# Altium footprint library PICOROM-Flex.PcbLib: 16 footprints
Each footprint in its own frame and in the unit in brackets; x right, y up, seen from the top. Pads: shape width x height; smd on the part's side, far side on the other; paste and mask are expansions set on the pad; w line width, h text height; cw(c..) or ccw(c..) is an arc to the next point about the centre after c.
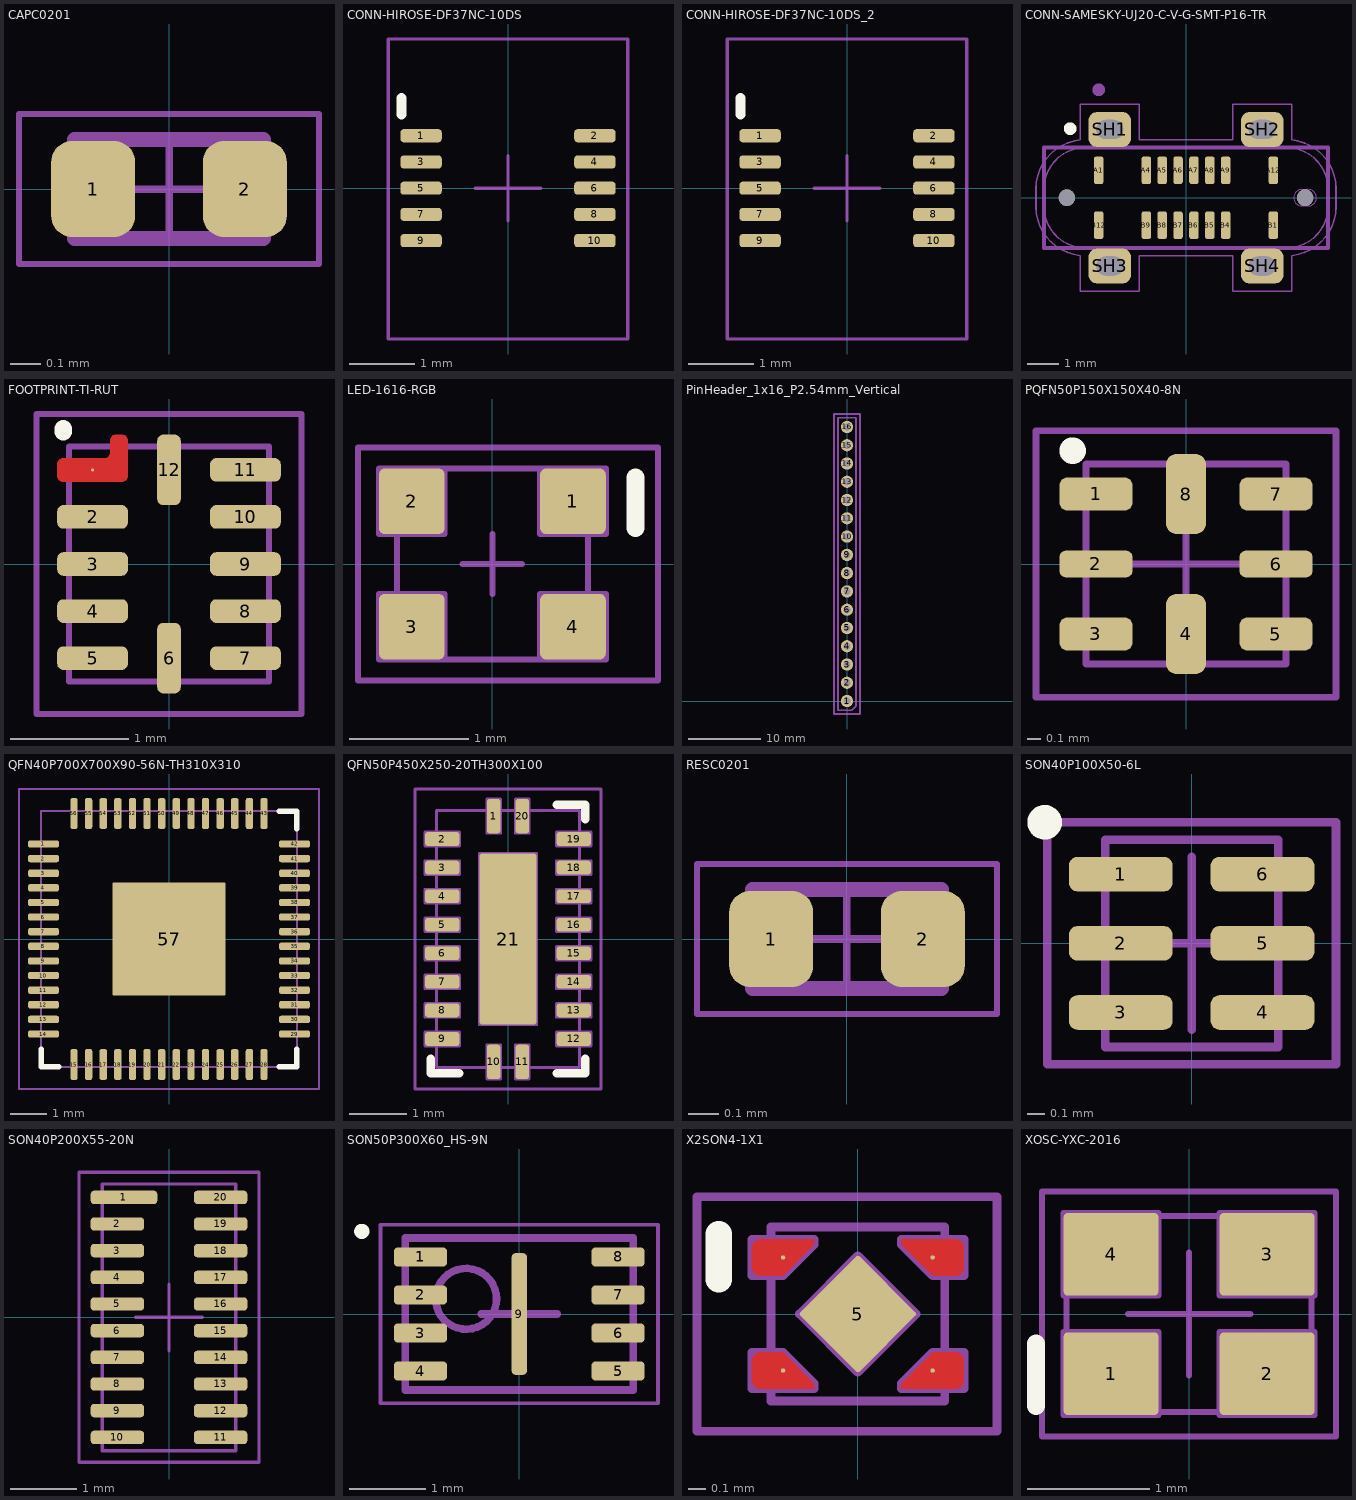
[diagram p0: the footprints below, top view; thin cyan lines are the x and y axes]

## CAPC0201 [mm]
pads (2):
  rrect50% 0.28x0.32 smd mask+0.05: 1(-0.253,0) 2(0.253,0)
Top 3D Body:
  lines w0.05: -0.315,-0.165 0.315,-0.165 0.315,0.165 -0.315,0.165 -0.315,-0.165
Bottom Coating:
  lines w0.02: -0.5,-0.25 -0.5,0.25 0.5,0.25 0.5,-0.25 -0.5,-0.25
  lines w0.025: -0.165,0 0.165,0 ; 0,-0.165 0,0.165
3D body "CAPC0603X03L.step": height 0.33, standoff 0, extent -0.315,-0.165 0.315,0.165

## CONN-HIROSE-DF37NC-10DS [mm]
height 0.4
pads (10):
  rrect50% 0.63x0.2 smd paste+0 mask+0.05: 1(-1.325,0.8) 2(1.325,0.8) 3(-1.325,0.4) 4(1.325,0.4) 5(-1.325,0) 6(1.325,0) 7(-1.325,-0.4) 8(1.325,-0.4) 9(-1.325,-0.8) 10(1.325,-0.8)
Top Overlay:
  lines w0.15: -1.625,1.125 -1.625,1.375
Bottom Coating:
  lines w0.05: -0.5,0 0,0 ; 0,-0.5 0,0 ; 0,0.5 0,0 ; 0.5,0 0,0 ; -1.825,-2.3 -1.825,-0.8 -1.825,2.275 1.825,2.275 1.825,-2.3 -1.825,-2.3
3D body "DF37NC-10DS-0.4V.stp": height 0.99, standoff 0.01, extent -1.489,-2.11 1.491,2.11

## CONN-HIROSE-DF37NC-10DS_2 [mm]
pads (10):
  rrect50% 0.63x0.2 smd paste+0 mask+0.05: 1(-1.325,0.8) 2(1.325,0.8) 3(-1.325,0.4) 4(1.325,0.4) 5(-1.325,0) 6(1.325,0) 7(-1.325,-0.4) 8(1.325,-0.4) 9(-1.325,-0.8) 10(1.325,-0.8)
Top Overlay:
  lines w0.15: -1.625,1.125 -1.625,1.375
Bottom Coating:
  lines w0.05: -0.5,0 0,0 ; 0,-0.5 0,0 ; 0,0.5 0,0 ; 0.5,0 0,0 ; -1.825,-2.3 -1.825,-0.8 -1.825,2.275 1.825,2.275 1.825,-2.3 -1.825,-2.3
3D body "DF37NC-10DS-0.4V.stp": height 0.99, standoff 0.01, extent -1.489,-2.11 1.491,2.11

## CONN-SAMESKY-UJ20-C-V-G-SMT-P16-TR [mm]
height 7.45
pads (22):
  rrect50% 0.3x0.87 smd mask+0.05: A1(-2.75,0.865) A4(-1.25,0.865) A5(-0.75,0.865) A6(-0.25,0.865) A7(0.25,0.865) A8(0.75,0.865) A9(1.25,0.865) A12(2.75,0.865) B1(2.75,-0.865) B4(1.25,-0.865) B5(0.75,-0.865) B6(0.25,-0.865) B7(-0.25,-0.865) B8(-0.75,-0.865) B9(-1.25,-0.865) B12(-2.75,-0.865)
  rrect50% 1.35x1.1 hole 0.6 slot 0.85 at 0 deg mask+0.1: SH1(-2.4,2.15) SH2(2.4,2.15) SH3(-2.4,-2.15) SH4(2.4,-2.15)
  round 0.52 hole 0.52 unplated mask+0.15: ""(-3.75,0) ""(3.75,0)
Top Overlay:
  circle w0.2: c-3.65,2.175 r0.1
Bottom Solder:
  region: 3.878,0.358 3.896,0.356 3.915,0.352 3.933,0.348 3.951,0.342 3.969,0.336 3.986,0.329 4.003,0.321 4.02,0.312 4.036,0.302 4.052,0.291 4.067,0.28 4.081,0.268 4.095,0.255 4.108,0.241 4.12,0.227 4.131,0.212 4.142,0.196 4.152,0.18 4.161,0.163 4.169,0.146 4.176,0.129 4.182,0.111 4.188,0.093 4.192,0.075 4.196,0.056 4.198,0.038 4.2,0.019 4.2,0 4.2,-0.019 4.198,-0.038 4.196,-0.056 4.192,-0.075 4.188,-0.093 4.182,-0.111 4.176,-0.129 4.169,-0.146 4.161,-0.163 4.152,-0.18 4.142,-0.196 4.131,-0.212 4.12,-0.227 4.108,-0.241 4.095,-0.255 4.081,-0.268 4.067,-0.28 4.052,-0.291 4.036,-0.302 4.02,-0.312 4.003,-0.321 3.986,-0.329 3.969,-0.336 3.951,-0.342 3.933,-0.348 3.915,-0.352 3.896,-0.356 3.878,-0.358 3.859,-0.36 3.641,-0.36 3.622,-0.358 3.604,-0.356 3.585,-0.352 3.567,-0.348 3.549,-0.342 3.531,-0.336 3.514,-0.329 3.497,-0.321 3.48,-0.312 3.464,-0.302 3.448,-0.291 3.433,-0.28 3.419,-0.268 3.405,-0.255 3.392,-0.241 3.38,-0.227 3.369,-0.212 3.358,-0.196 3.348,-0.18 3.339,-0.163 3.331,-0.146 3.324,-0.129 3.318,-0.111 3.312,-0.093 3.308,-0.075 3.304,-0.056 3.302,-0.038 3.3,-0.019 3.3,0 3.3,0.019 3.302,0.038 3.304,0.056 3.308,0.075 3.312,0.093 3.318,0.111 3.324,0.129 3.331,0.146 3.339,0.163 3.348,0.18 3.358,0.196 3.369,0.212 3.38,0.227 3.392,0.241 3.405,0.255 3.419,0.268 3.433,0.28 3.448,0.291 3.464,0.302 3.48,0.312 3.497,0.321 3.514,0.329 3.531,0.336 3.549,0.342 3.567,0.348 3.585,0.352 3.604,0.356 3.622,0.358 3.641,0.36 3.859,0.36
Mechanical 1:
  lines w0: 3.39,0 cw(c3.65,0) 3.65,0.26 3.84,0.26 cw(c3.845,-0.005) 4.11,0 cw(c3.845,0.005) 3.84,-0.26 3.66,-0.26 cw(c3.655,0.005) 3.39,0
Top 3D Body:
  lines w0.05: -4.475,-0.285 ccw(c-3.175,-0.28) -3.165,-1.58 3.165,-1.58 ccw(c3.175,-0.28) 4.475,-0.285 4.475,0.285 ccw(c3.175,0.28) 3.165,1.58 -3.165,1.58 ccw(c-3.175,0.28) -4.475,0.285 -4.475,-0.285
Bottom Coating:
  lines w0.05: -4.725,-0.286 -4.725,0.284 ; -4.725,-0.284 -4.725,0.286 ; -4.725,-0.28 ccw(c-3.175,-0.28) -3.337,-1.821 ; -4.725,0.28 cw(c-3.175,0.28) -3.337,1.821 ; -3.325,-1.821 -3.325,-2.95 -1.475,-2.95 -1.475,-1.83 1.475,-1.83 1.475,-2.95 3.325,-2.95 3.325,-1.821 ; -3.325,1.821 -3.325,2.95 -1.475,2.95 -1.475,1.83 1.475,1.83 1.475,2.95 3.325,2.95 3.325,1.821 ; 3.337,-1.821 ccw(c3.175,-0.28) 4.725,-0.28 ; 3.337,1.821 cw(c3.175,0.28) 4.725,0.28 ; 4.725,-0.286 4.725,0.284 4.725,-0.286 ; 4.725,-0.284 4.725,0.286
Mechanical 13:
  circle w0.2: c-2.75,3.4 r0.1
  lines w0.127: -4.47,-1.58 -4.47,1.58 4.47,1.58 4.47,-1.58 -4.47,-1.58
3D body "Same_Sky_UJ20-C-V-G-SMT-P16-TR.step": height 6.41, standoff -0.94, extent -4.475,-2.3 4.465,2.3

## FOOTPRINT-TI-RUT [mm] "R-PUQFN-N12, TI RUT"
height 1.1
pads (12):
  round 0.025 smd paste+0 mask+0.05: 1(-0.65,0.8)
  rrect50% 0.6x0.2 smd paste+0 mask+0.05: 2(-0.65,0.4) 3(-0.65,0) 4(-0.65,-0.4) 5(-0.65,-0.8) 7(0.65,-0.8) 8(0.65,-0.4) 9(0.65,0) 10(0.65,0.4) 11(0.65,0.8)
  rrect50% 0.2x0.6 smd paste+0 mask+0.05: 6(0,-0.8) 12(0,0.8)
Top Layer:
  region: -0.9,0.9 -0.91,0.9 -0.928,0.892 -0.942,0.878 -0.95,0.86 -0.95,0.85 -0.95,0.75 -0.95,0.74 -0.942,0.722 -0.929,0.708 -0.91,0.7 -0.9,0.7 -0.4,0.7 -0.39,0.7 -0.372,0.708 -0.358,0.722 -0.35,0.74 -0.35,0.75 -0.35,1.05 -0.35,1.06 -0.358,1.078 -0.372,1.092 -0.39,1.1 -0.4,1.1 -0.45,1.1 -0.46,1.1 -0.478,1.092 -0.492,1.078 -0.5,1.06 -0.5,1.05 -0.5,0.95 -0.501,0.94 -0.508,0.922 -0.522,0.908 -0.54,0.901 -0.55,0.9
Top Overlay:
  lines w0.15: -0.9,1.125 -0.9,1.15
Top Paste:
  region: -0.35,0.901 -0.501,0.901 -0.501,1.05 -0.35,1.05
  region: 0.1,-1.051 -0.1,-1.051 -0.1,-0.55 0.1,-0.55
  region: 0.9,-0.901 0.4,-0.901 0.4,-0.7 0.9,-0.7
  region: 0.9,-0.5 0.4,-0.5 0.4,-0.3 0.9,-0.3
  region: 0.9,-0.1 0.401,-0.1 0.401,0.1 0.9,0.1
  region: 0.9,0.3 0.4,0.3 0.4,0.5 0.9,0.5
  region: 0.9,0.701 0.4,0.701 0.4,0.9 0.9,0.9
  region: 0.1,0.55 -0.1,0.55 -0.1,1.05 0.1,1.05
  region: -0.4,-0.9 -0.9,-0.9 -0.9,-0.7 -0.4,-0.7
  region: -0.4,-0.5 -0.901,-0.5 -0.901,-0.3 -0.4,-0.3
  region: -0.4,-0.1 -0.9,-0.1 -0.9,0.1 -0.4,0.1
  region: -0.4,0.3 -0.901,0.3 -0.901,0.5 -0.4,0.5
  region: -0.4,0.7 -0.9,0.7 -0.9,0.9 -0.4,0.9
Mechanical 13:
  lines w0.05: -0.85,-1 -0.85,1 0.85,1 0.85,-1 -0.85,-1
Mechanical 15:
  lines w0.05: -1.125,-1.275 -1.125,1.275 1.125,1.275 1.125,-1.275 -1.125,-1.275
3D body "step_temp.STEP": height 0.55, standoff 0, extent -0.85,-1 0.85,1

## LED-1616-RGB [mm]
height 1.1
pads (4):
  rrect18% 0.55x0.55 smd paste+0 mask+0.05: 1(0.675,0.525) 2(-0.675,0.525) 3(-0.675,-0.525) 4(0.675,-0.525)
Top Overlay:
  lines w0.15: 1.2,0.3 1.2,0.725
Top 3D Body:
  lines w0.05: -0.95,-0.8 -0.4,-0.8 -0.4,-0.25 -0.675,-0.25 -0.95,-0.25 -0.95,-0.8 ; -0.95,0.25 -0.95,0.8 -0.4,0.8 -0.4,0.25 -0.675,0.25 -0.95,0.25 ; -0.8,-0.8 -0.8,0.8 0.8,0.8 0.8,-0.8 -0.8,-0.8 ; 0.4,-0.8 0.95,-0.8 0.95,-0.25 0.675,-0.25 0.4,-0.25 0.4,-0.8 ; 0.4,0.25 0.4,0.8 0.95,0.8 0.95,0.25 0.675,0.25 0.4,0.25
  text "K" at 0.4,0.25 h0.5
Bottom Coating:
  lines w0.05: -0.25,0 0.25,0 ; 0,-0.25 0,0.25 ; -1.125,-0.975 -1.125,0.975 1.387,0.975 1.387,-0.975 -1.125,-0.975
3D body "APTF1616.STEP": height 0.71, standoff 0.01, extent -0.8,-0.8 0.8,0.8

## PinHeader_1x16_P2.54mm_Vertical [mm]
pads (16):
  round 1.7 hole 1 paste-2539.97 mask+0.051: 1(0,0)
  rrect100% 1.7x1.7 hole 1 paste-2539.97 mask+0.051: 2(0,2.54) 3(0,5.08) 4(0,7.62) 5(0,10.16) 6(0,12.7) 7(0,15.24) 8(0,17.78) 9(0,20.32) 10(0,22.86) 11(0,25.4) 12(0,27.94) 13(0,30.48) 14(0,33.02) 15(0,35.56) 16(0,38.1)
Bottom Courtyard:
  lines w0.254: -1.8,-1.8 -1.8,39.9 1.8,39.9 1.8,-1.8 -1.8,-1.8
Bottom Assembly:
  lines w0.254: -1.27,-1.27 -1.27,39.37 1.27,39.37 1.27,-0.635 0.635,-1.27 -1.27,-1.27
  text "'.Designator'" at 0.65,18.176 h1

## PQFN50P150X150X40-8N [mm] "PQFN, 8-Leads, Body 1.50x1.50mm, Pitch 0.50mm, IPC Medium Density"
height 0.4
pads (8):
  rrect50% 0.55x0.25 smd mask+0.05: 1(-0.675,0.525) 3(-0.675,-0.525) 5(0.675,-0.525) 7(0.675,0.525)
  rrect50% 0.55x0.2 smd mask+0.05: 2(-0.675,0) 6(0.675,0)
  rrect50% 0.3x0.6 smd mask+0.05: 4(0,-0.525) 8(0,0.525)
Top Overlay:
  circle w0.1: c-0.85,0.85 r0.05
Top 3D Body:
  lines w0.05: -0.75,-0.75 -0.75,0.75 0.75,0.75 0.75,-0.75 -0.75,-0.75
Bottom Coating:
  lines w0.05: -0.5,0 0.5,0 ; 0,-0.5 0,0.5 ; -1.125,-1 -1.125,1 1.125,1 1.125,-1 -1.125,-1
3D body "PQFN50P150X150X40-8N.step": height 0.4, standoff 0, extent -0.75,-0.75 0.75,0.75

## QFN40P700X700X90-56N-TH310X310 [mm]
height 0.9
pads (57):
  rrect50% 0.84x0.2 smd mask+0.05: 1(-3.435,2.6) 2(-3.435,2.2) 3(-3.435,1.8) 4(-3.435,1.4) 5(-3.435,1) 6(-3.435,0.6) 7(-3.435,0.2) 8(-3.435,-0.2) 9(-3.435,-0.6) 10(-3.435,-1) 11(-3.435,-1.4) 12(-3.435,-1.8) 13(-3.435,-2.2) 14(-3.435,-2.6) 29(3.435,-2.6) 30(3.435,-2.2) 31(3.435,-1.8) 32(3.435,-1.4) 33(3.435,-1) 34(3.435,-0.6) 35(3.435,-0.2) 36(3.435,0.2) 37(3.435,0.6) 38(3.435,1) 39(3.435,1.4) 40(3.435,1.8) 41(3.435,2.2) 42(3.435,2.6)
  rrect50% 0.2x0.84 smd mask+0.05: 15(-2.6,-3.435) 16(-2.2,-3.435) 17(-1.8,-3.435) 18(-1.4,-3.435) 19(-1,-3.435) 20(-0.6,-3.435) 21(-0.2,-3.435) 22(0.2,-3.435) 23(0.6,-3.435) 24(1,-3.435) 25(1.4,-3.435) 26(1.8,-3.435) 27(2.2,-3.435) 28(2.6,-3.435) 43(2.6,3.435) 44(2.2,3.435) 45(1.8,3.435) 46(1.4,3.435) 47(1,3.435) 48(0.6,3.435) 49(0.2,3.435) 50(-0.2,3.435) 51(-0.6,3.435) 52(-1,3.435) 53(-1.4,3.435) 54(-1.8,3.435) 55(-2.2,3.435) 56(-2.6,3.435)
  rrect3% 3.1x3.1 smd paste-0.57 mask+0.05: 57(0,0)
Top Overlay:
  lines w0.15: -3.5,-3.02 -3.5,-3.5 -3.02,-3.5 ; 3.02,-3.5 3.5,-3.5 3.5,-3.02 ; 3.02,3.5 3.5,3.5 3.5,3.02
Mechanical 13:
  lines w0.05: -3.5,-3.5 -3.5,3.5 3.5,3.5 3.5,-3.5 -3.5,-3.5
Mechanical 15:
  lines w0.05: -4.105,-4.105 -4.105,4.105 4.105,4.105 4.105,-4.105 -4.105,-4.105
3D body "step_temp.STEP": height 0.9, standoff 0, extent -3.5,-3.5 3.5,3.5

## QFN50P450X250-20TH300X100 [mm]
height 1.1
pads (21):
  rrect41% 0.24x0.6 smd mask+0.051: 1(-0.25,2.15) 10(-0.25,-2.15) 11(0.25,-2.15) 20(0.25,2.15)
  rrect41% 0.6x0.24 smd mask+0.051: 2(-1.15,1.75) 3(-1.15,1.25) 4(-1.15,0.75) 5(-1.15,0.25) 6(-1.15,-0.25) 7(-1.15,-0.75) 8(-1.15,-1.25) 9(-1.15,-1.75) 12(1.15,-1.75) 13(1.15,-1.25) 14(1.15,-0.75) 15(1.15,-0.25) 16(1.15,0.25) 17(1.15,0.75) 18(1.15,1.25) 19(1.15,1.75)
  rrect10% 1x3 smd mask+0.051: 21(0,0)
Top Overlay:
  lines w0.15: -1.35,-2.1 -1.35,-2.35 -0.85,-2.35 ; 0.85,-2.35 1.35,-2.35 1.35,-2.1 ; 0.85,2.35 1.35,2.35 1.35,2.1
Top 3D Body:
  lines w0.05: -1.45,-1.87 -0.85,-1.87 -0.85,-1.63 -1.45,-1.63 -1.45,-1.75 -1.45,-1.87 ; -1.45,-1.37 -0.85,-1.37 -0.85,-1.13 -1.45,-1.13 -1.45,-1.25 -1.45,-1.37 ; -1.45,-0.87 -0.85,-0.87 -0.85,-0.63 -1.45,-0.63 -1.45,-0.75 -1.45,-0.87 ; -1.45,-0.37 -0.85,-0.37 -0.85,-0.13 -1.45,-0.13 -1.45,-0.25 -1.45,-0.37 ; -1.45,0.13 -0.85,0.13 -0.85,0.37 -1.45,0.37 -1.45,0.25 -1.45,0.13 ; -1.45,0.63 -0.85,0.63 -0.85,0.87 -1.45,0.87 -1.45,0.75 -1.45,0.63 ; -1.45,1.13 -0.85,1.13 -0.85,1.37 -1.45,1.37 -1.45,1.25 -1.45,1.13 ; -1.45,1.63 -0.85,1.63 -0.85,1.87 -1.45,1.87 -1.45,1.75 -1.45,1.63 ; -1.25,-2.25 -1.25,2.25 1.25,2.25 1.25,-2.25 -1.25,-2.25 ; -0.5,-1.5 0.5,-1.5 0.5,1.5 0,1.5 -0.5,1.5 -0.5,-1.5 ; -0.37,-2.45 -0.25,-2.45 -0.13,-2.45 -0.13,-1.85 -0.37,-1.85 -0.37,-2.45 ; -0.37,1.85 -0.13,1.85 -0.13,2.45 -0.25,2.45 -0.37,2.45 -0.37,1.85 ; 0.13,-2.45 0.25,-2.45 0.37,-2.45 0.37,-1.85 0.13,-1.85 0.13,-2.45 ; 0.13,1.85 0.37,1.85 0.37,2.45 0.25,2.45 0.13,2.45 0.13,1.85 ; 0.85,-1.87 1.45,-1.87 1.45,-1.63 0.85,-1.63 0.85,-1.75 0.85,-1.87 ; 0.85,-1.37 1.45,-1.37 1.45,-1.13 0.85,-1.13 0.85,-1.25 0.85,-1.37 ; 0.85,-0.87 1.45,-0.87 1.45,-0.63 0.85,-0.63 0.85,-0.75 0.85,-0.87 ; 0.85,-0.37 1.45,-0.37 1.45,-0.13 0.85,-0.13 0.85,-0.25 0.85,-0.37 ; 0.85,0.13 1.45,0.13 1.45,0.37 0.85,0.37 0.85,0.25 0.85,0.13 ; 0.85,0.63 1.45,0.63 1.45,0.87 0.85,0.87 0.85,0.75 0.85,0.63 ; 0.85,1.13 1.45,1.13 1.45,1.25 1.45,1.37 0.85,1.37 0.85,1.13 ; 0.85,1.63 1.45,1.63 1.45,1.75 1.45,1.87 0.85,1.87 0.85,1.63
Bottom Coating:
  lines w0.05: -0.25,0 0,0 ; 0,-0.25 0,0 ; 0,0.25 0,0 ; 0.25,0 0,0 ; -1.625,-2.625 1.625,-2.625 1.625,2.625 -1.625,2.625 -1.625,-1.75 -1.625,-2.625
3D body "PQFN50P250X450X90_HS-21N.step": height 0.9, standoff 0, extent -1.25,-2.25 1.25,2.25

## RESC0201 [mm] "RES, 0201 Chip Resistor, 2-Leads, Body 0.60x0.30mm, IPC High Density"
height 0.26
pads (2):
  rrect50% 0.28x0.32 smd mask+0.05: 1(-0.253,0) 2(0.253,0)
Top 3D Body:
  lines w0.05: -0.315,-0.165 -0.315,0.165 0.315,0.165 0.315,-0.165 -0.315,-0.165
Bottom Coating:
  lines w0.02: -0.5,-0.25 0.5,-0.25 0.5,0.25 -0.5,0.25 -0.5,-0.25
  lines w0.025: -0.165,0 0.165,0 ; 0,-0.165 0,0.165
3D body "RESC0603X03L.step": height 0.26, standoff 0, extent -0.315,-0.165 0.315,0.165

## SON40P100X50-6L [mm] "SON, 6-Leads, Body 1.20x1.00mm, Pitch 0.40mm, IPC High Density"
height 0.5
pads (6):
  rrect50% 0.6x0.2 smd mask+0.05: 1(-0.41,0.4) 2(-0.41,0) 3(-0.41,-0.4) 4(0.41,-0.4) 5(0.41,0) 6(0.41,0.4)
Top Overlay:
  circle w0.1: c-0.85,0.7 r0.05
Top 3D Body:
  lines w0.05: -0.5,-0.6 0.5,-0.6 0.5,0.6 -0.5,0.6 -0.5,-0.6
Bottom Coating:
  lines w0.05: -0.5,0 0.5,0 ; 0,-0.5 0,0.5 ; -0.835,-0.7 0.835,-0.7 0.835,0.7 -0.835,0.7 -0.835,-0.7
3D body "SON40P100X50-6L.step": height 0.5, standoff 0, extent -0.55,-0.6 0.55,0.6

## SON40P200X55-20N [mm] "SON, 20-Leads, Body 4.00x2.00mm, Pitch 0.40mm, IPC Medium Density"
height 0.55
pads (20):
  rrect50% 1x0.2 smd mask+0.05: 1(-0.675,1.8)
  rrect50% 0.8x0.2 smd mask+0.05: 2(-0.775,1.4) 3(-0.775,1) 4(-0.775,0.6) 5(-0.775,0.2) 6(-0.775,-0.2) 7(-0.775,-0.6) 8(-0.775,-1) 9(-0.775,-1.4) 10(-0.775,-1.8) 11(0.775,-1.8) 12(0.775,-1.4) 13(0.775,-1) 14(0.775,-0.6) 15(0.775,-0.2) 16(0.775,0.2) 17(0.775,0.6) 18(0.775,1) 19(0.775,1.4) 20(0.775,1.8)
Top 3D Body:
  lines w0.05: -1,-2 -1,2 1,2 1,-2 -1,-2
Bottom Coating:
  lines w0.05: -0.5,0 0.5,0 ; 0,-0.5 0,0.5 ; -1.35,-2.175 -1.35,2.175 1.35,2.175 1.35,-2.175 -1.35,-2.175
3D body "SON40P200X55-20N.step": height 0.55, standoff 0, extent -1.05,-2 1.05,2

## SON50P300X60_HS-9N [mm] "SON, 8-Leads, Body 2.00x3.00mm, Pitch 0.50mm, Thermal Pad 1.60x0.20mm, IPC Medium Density"
height 0.6
pads (9):
  rrect40% 0.7x0.25 smd mask+0.05: 1(-1.3,0.75) 2(-1.3,0.25) 3(-1.3,-0.25) 4(-1.3,-0.75) 5(1.3,-0.75) 6(1.3,-0.25) 7(1.3,0.25) 8(1.3,0.75)
  rrect50% 0.2x1.6 smd mask+0.05: 9(0,0)
Top Overlay:
  circle w0.1: c-2.072,1.087 r0.05
Top 3D Body:
  circle w0.1: c-0.7,0.2 r0.4
  lines w0.1: -1.5,-1 -1.5,1 1.5,1 1.5,-1 -1.5,-1
Bottom Coating:
  lines w0.05: -1.825,-1.175 -1.825,1.175 1.825,1.175 1.825,-1.175 -1.825,-1.175
  lines w0.1: -0.5,0 0.5,0 ; 0,-0.5 0,0.5
3D body "SON50P300X60_HS-9N.step": height 0.6, standoff 0, extent -1.55,-1 1.55,1

## X2SON4-1X1 [mm] "FOOTPRINT, TI, DQN0004A X2SON4"
height 1.1
pads (5):
  round 0.025 smd mask+0.05: 1(-0.43,0.325) 2(-0.43,-0.325) 3(0.43,-0.325) 4(0.43,0.325)
  rrect4% 0.48x0.48 smd rot 45 mask+0.05: 5(0,0)
Top Layer:
  region: 0.43,0.22 0.25,0.4 0.25,0.43 0.559,0.43 0.569,0.43 0.588,0.422 0.602,0.408 0.61,0.389 0.61,0.379 0.61,0.271 0.61,0.261 0.602,0.242 0.588,0.228 0.569,0.22 0.559,0.22 0.52,0.22
  region: -0.43,0.22 -0.25,0.4 -0.25,0.43 -0.559,0.43 -0.569,0.43 -0.588,0.422 -0.602,0.408 -0.61,0.389 -0.61,0.379 -0.61,0.271 -0.61,0.261 -0.602,0.242 -0.588,0.228 -0.569,0.22 -0.559,0.22 -0.52,0.22
  region: -0.43,-0.22 -0.25,-0.4 -0.25,-0.43 -0.559,-0.43 -0.569,-0.43 -0.588,-0.422 -0.602,-0.408 -0.61,-0.389 -0.61,-0.379 -0.61,-0.271 -0.61,-0.261 -0.602,-0.242 -0.588,-0.228 -0.569,-0.22 -0.559,-0.22 -0.52,-0.22
  region: 0.43,-0.22 0.25,-0.4 0.25,-0.43 0.559,-0.43 0.569,-0.43 0.588,-0.422 0.602,-0.408 0.61,-0.389 0.61,-0.379 0.61,-0.271 0.61,-0.261 0.602,-0.242 0.588,-0.228 0.569,-0.22 0.559,-0.22 0.52,-0.22
Top Overlay:
  lines w0.15: -0.8,0.2 -0.8,0.46
Top 3D Body:
  region: -0.25,0.43 -0.43,0.43 -0.43,0.22 -0.25,0.4
  lines w0.05: -0.559,0.43 -0.5,0.43 -0.5,0.5 0.5,0.5 0.5,-0.5 -0.5,-0.5 -0.5,0.22 -0.43,0.22 ; -0.43,0.22 -0.25,0.4 -0.25,0.43 -0.61,0.43 -0.61,0.22 -0.43,0.22 ; -0.61,-0.43 -0.25,-0.43 -0.25,-0.4 -0.43,-0.22 -0.61,-0.22 -0.61,-0.43 ; -0.335,0 0,0.335 0.335,0 0,-0.335 -0.335,0 ; 0.25,-0.43 0.25,-0.4 0.43,-0.22 0.61,-0.22 0.61,-0.43 0.25,-0.43 ; 0.25,0.4 0.25,0.43 0.61,0.43 0.61,0.22 0.43,0.22 0.25,0.4
  text "1" at -0.61,0.225 h0.3
Bottom Coating:
  lines w0.05: -0.925,-0.675 -0.925,0.675 0.8,0.675 0.8,-0.675 -0.925,-0.675
3D body: height 0.4, standoff 0, extent -0.5,-0.5 0.5,0.5

## XOSC-YXC-2016 [mm] "YSO110TR"
height 0.9
pads (4):
  rrect10% 0.775x0.675 smd paste+0 mask+0.05: 1(-0.637,-0.487) 2(0.637,-0.487) 3(0.637,0.487) 4(-0.637,0.487)
Top Overlay:
  lines w0.15: -1.25,-0.75 -1.25,-0.242
Top 3D Body:
  lines w0.05: -1.015,-0.149 -0.637,-0.149 -0.249,-0.149 -0.249,-0.824 -1.024,-0.824 -1.024,-0.149 -1,-0.149 ; -1.015,0.825 -0.637,0.825 -0.249,0.825 -0.249,0.15 -1.024,0.15 -1.024,0.825 -1,0.825 ; 0.26,-0.149 0.637,-0.149 1.025,-0.149 1.025,-0.824 0.25,-0.824 0.25,-0.149 0.274,-0.149 ; 0.26,0.825 0.637,0.825 1.025,0.825 1.025,0.15 0.25,0.15 0.25,0.825 0.274,0.825 ; -1,-0.8 0,-0.8 1,-0.8 1,0.8 -1,0.8 -1,-0.8
Bottom Coating:
  lines w0.05: -0.5,0 0,0 ; 0,-0.5 0,0 ; 0,0.5 0,0 ; 0.5,0 0,0 ; -1.2,-1 1.2,-1 1.2,1 -0.625,1 -1.2,1 -1.2,-1
3D body "MC2016Z.stp": height 0.76, standoff 0.01, extent -1,-0.8 1,0.8